# Altium footprint library TI PVSON-14 DSJ.PCBLIB: 1 footprints
Each footprint in its own frame and in the unit in brackets; x right, y up, seen from the top. Pads: shape width x height; smd on the part's side, far side on the other; paste and mask are expansions set on the pad; w line width, h text height; cw(c..) or ccw(c..) is an arc to the next point about the centre after c.
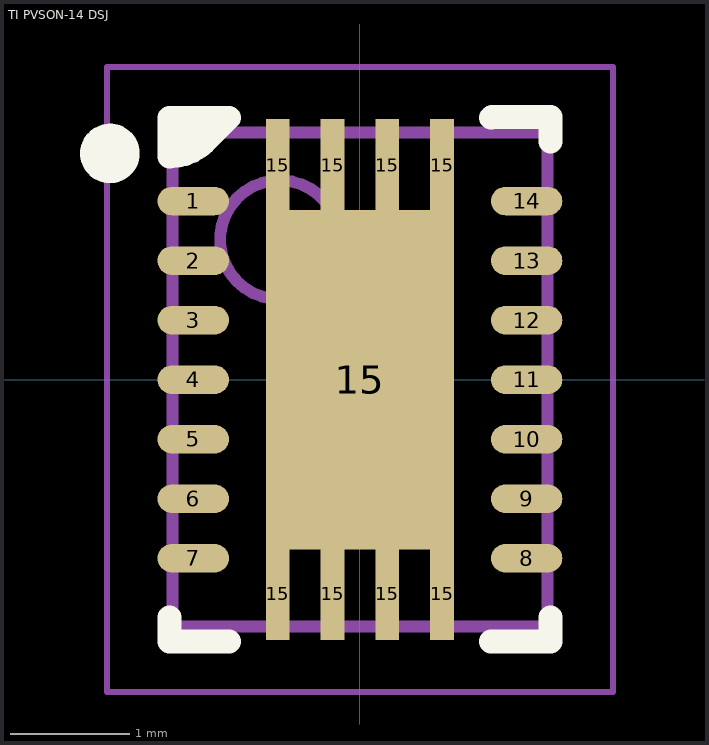
[diagram p0: the footprint, top view; thin cyan lines are the x and y axes]

## TI PVSON-14 DSJ [mm] "VSON, 14-Leads, Body 3.00x4.00mm, Pitch 0.50mm, Thermal Pad 1.58x2.85mm, IPC Medium Density"
height 1
pads (23):
  oval 0.6x0.24 smd: 1(-1.4,1.5) 2(-1.4,1) 3(-1.4,0.5) 4(-1.4,0) 5(-1.4,-0.5) 6(-1.4,-1) 7(-1.4,-1.5) 8(1.4,-1.5) 9(1.4,-1) 10(1.4,-0.5) 11(1.4,0) 12(1.4,0.5) 13(1.4,1) 14(1.4,1.5)
  rect 0.2x0.775 smd: 15(-0.69,-1.8) 15(-0.69,1.8) 15(-0.23,-1.8) 15(-0.23,1.8) 15(0.23,-1.8) 15(0.23,1.8) 15(0.69,-1.8) 15(0.69,1.8)
  rect 1.58x2.85 smd: 15(0,0)
Top Overlay:
  circle w0.25: c-2.1,1.9 r0.125
  region: -1.6,2.2 -1.1,2.2 -1.425,1.875 -1.6,1.875
  lines w0.2: -1.6,-1.995 -1.6,-2.2 -1.1,-2.2 ; 1.1,-2.2 1.6,-2.2 1.6,-1.995 ; 1.1,2.2 cw(c1.112,2.188) 1.112,2.205 1.6,2.205 1.6,2 ; -1.6,1.875 ccw(c-1.6,2.297) -1.301,1.999 -1.1,2.2 -1.6,2.2 -1.6,1.875
Mechanical 13:
  circle w0.1: c-0.675,1.175 r0.5
  lines w0.1: -1.575,-2.075 1.575,-2.075 1.575,2.075 -1.575,2.075 -1.575,-2.075
Mechanical 15:
  lines w0.05: -2.125,-2.625 2.125,-2.625 2.125,2.625 -2.125,2.625 -2.125,-2.625
  lines w0.1: -0.5,0 0.5,0 ; 0,-0.5 0,0.5
3D body: height 1, standoff 0.08, extent -1.575,-2.075 1.575,2.075